# Altium schematic symbol library TL081CP.SchLib: 1 symbol
Pins are listed as number, name and electrical type; pins without a type are passive.

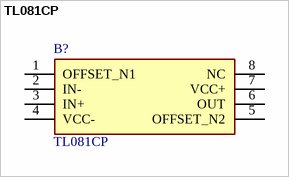
[diagram p0: symbol TL081CP]

## TL081CP
designator B?
TL081CP, Operational Amplifier 3MHz, 8-Pin PDIP; Manufacturer_Name: Texas Instruments; Geometry.Height: 5.08mm; Mouser Part Number: 595-TL081CP; Mouser Price/Stock: https://www.mouser.co.uk/ProductDetail/Texas-Instruments/TL081CP?qs=xJkDX%2FqrskP5SC31s4Mqdg%3D%3D; Manufacturer_Part_Number: TL081CP; Datasheet Link: http://www.ti.com/lit/ds/symlink/tl081a.pdf
footprint DIP794W53P254L959H508Q8N
pins: 1 OFFSET_N1, 2 IN-, 3 IN+, 4 VCC-, 5 OFFSET_N2, 6 OUT, 7 VCC+, 8 NC